# Altium schematic symbol library UK_Library_SCH.SchLib: 87 symbols (part 1 of 2)
Pins are listed as number, name and electrical type; pins without a type are passive.

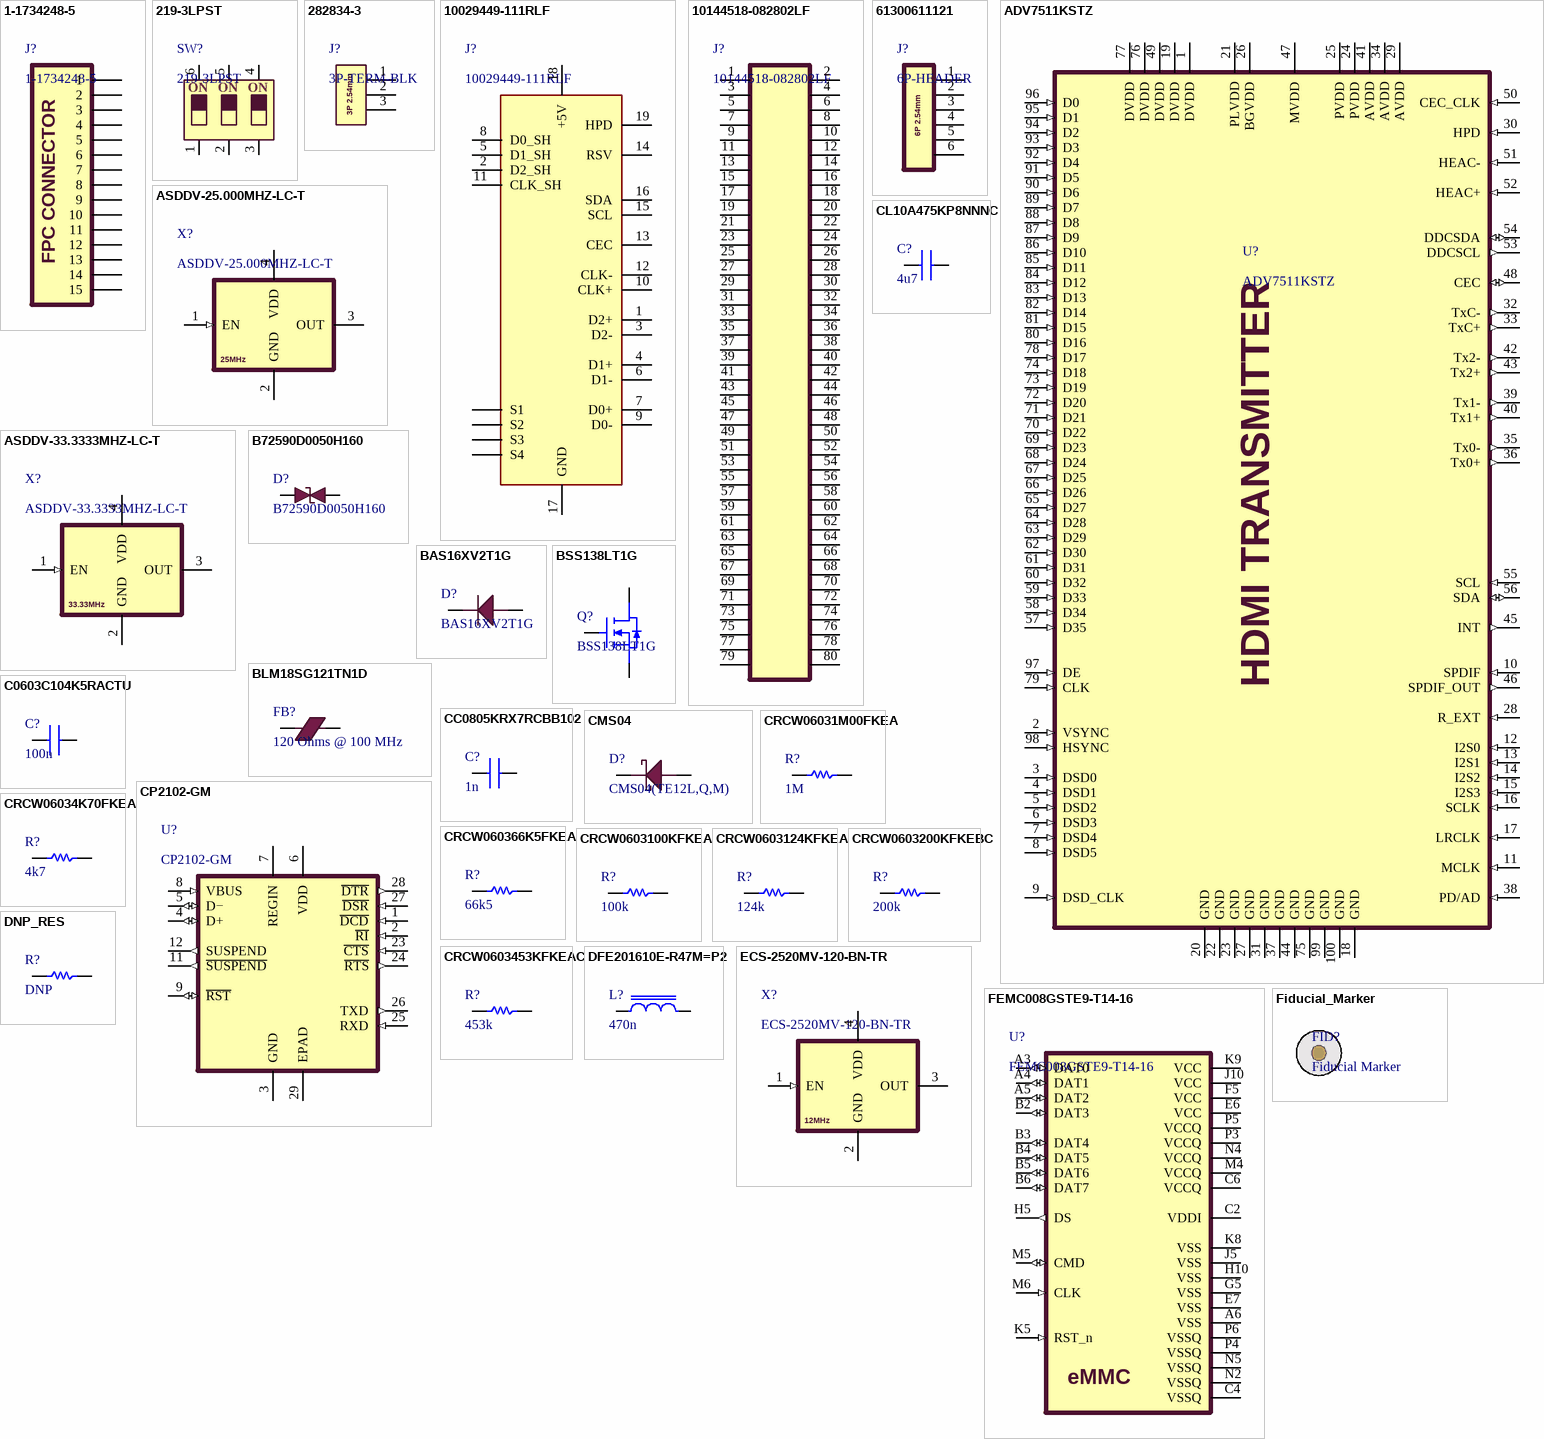
[diagram p0: symbols 1-1734248-5 to Fiducial_Marker]

## 1-1734248-5
designator J?
CONN FPC VERT 15POS 1MM SMD; Manufacturer: TE Connectivity AMP Connectors; ComponentLink2Description: Drawing; ComponentLink2URL: https://www.te.com/commerce/DocumentDelivery/DDEController?Action=srchrtrv&DocNm=1734248&DocType=Customer%20Drawing&DocLang=English&DocFormat=pdf&PartCntxt=1-1734248-5; ComponentLink3Description: Product Specification; ComponentLink3URL: https://www.te.com/commerce/DocumentDelivery/DDEController?Action=srchrtrv&DocNm=108-57080&DocType=Specification%20Or%20Standard&DocLang=English&DocFormat=pdf&PartCntxt=1-1734248-5; MPN: 1-1734248-5
footprint TE_1-1734248-5 (CONN FPC VERT 15POS 1MM SMD); pin to pad 1>1+1_1 2>2+2_1 3>3+3_1 4>4+4_1 5>5+5_1 6>6+6_1 7>7+7_1 8>8+8_1 9>9+9_1 10>10+10_1 11>11+11_1 12>12+12_1 13>13+13_1 14>14+14_1 15>15+15_1
pins: 1, 2, 3, 4, 5, 6, 7, 8, 9, 10, 11, 12, 13, 14, 15
text: FPC CONNECTOR

## 219-3LPST
designator SW?
Dip Switch SPST 3 Position Surface Mount Slide (Standard) Actuator 100mA 20VDC; Manufacturer: CTS Electrocomponents; ComponentLink1Description: Datasheet; ComponentLink1URL: https://www.ctscorp.com/Files/DataSheets/Switches/DIP-Switches/CTS-Switches-DIP-219-Series-Datasheet.pdf; MPN: 219-3LPST
footprint 219-3LPST
pins: 1, 2, 3, 4, 5, 6
text: ON

## 282834-3
designator J?, comment 3P-TERM-BLK
TERM BLK 3P SIDE ENT 2.54MM PCB
footprint CONN-3P-TERM-BLK (TERM BLK 3P SIDE ENT 2.54MM PCB)
pins: 1, 2, 3
text: 3P 2.54mm

## 10029449-111RLF
designator J?
CONN RCPT 1.4 HDMI 19POS SMD R/A; Manufacturer: Amphenol ICC (FCI); ComponentLink1Description: Datasheet; ComponentLink1URL: https://cdn.amphenol-cs.com/media/wysiwyg/files/documentation/datasheet/inputoutput/io_hdmi_receptacles.pdf; ComponentLink2Description: Drawing; ComponentLink2URL: https://cdn.amphenol-cs.com/media/wysiwyg/files/drawing/10029449.pdf; ComponentLink3Description: Product Specification; ComponentLink3URL: https://cdn.amphenol-cs.com/media/wysiwyg/files/documentation/gs-12-309.pdf; MPN: 10029449-111RLF
footprint AMPHENOL_10029449-111RLF
pins: 1 D2+, 2 D2_SH, 3 D2-, 4 D1+, 5 D1_SH, 6 D1-, 7 D0+, 8 D0_SH, 9 D0-, 10 CLK+, 11 CLK_SH, 12 CLK-, 13 CEC, 14 RSV, 15 SCL, 16 SDA, 17 GND, 18 +5V, 19 HPD, S1, S2, S3, S4

## 10144518-082802LF
designator J?
BergStak® Lite 0.80mm, Board-to-Board Connector, 80 Positions, Dual Row, Vertical Header; Manufacturer: Amphenol; MPN: 10144518-082802LF
footprint 10144518-082802LF
pins: 1, 2, 3, 4, 5, 6, 7, 8, 9, 10, 11, 12, 13, 14, 15, 16, 17, 18, 19, 20, 21, 22, 23, 24, 25, 26, 27, 28, 29, 30, 31, 32, 33, 34, 35, 36, 37, 38, 39, 40, 41, 42, 43, 44, 45, 46, 47, 48, 49, 50, 51, 52, 53, 54, 55, 56, 57, 58, 59, 60, 61, 62, 63, 64, 65, 66, 67, 68, 69, 70, 71, 72, 73, 74, 75, 76, 77, 78, 79, 80

## 61300611121
designator J?, comment 6P-HEADER
CONN HEADER VERT 6POS 2.54MM
footprint CONN-6P-HEADER (CONN HEADER VERT 6POS 2.54MM)
pins: 1, 2, 3, 4, 5, 6
text: 6P 2.54mm

## ADV7511KSTZ
designator U?
225 MHz, High Performance HDMI® Transmitter with ARC; Manufacturer: Analog Devices Inc./Maxim Integrated; ComponentLink1Description: Datasheet; ComponentLink1URL: https://www.analog.com/media/en/technical-documentation/data-sheets/ADV7511.pdf; ComponentLink2Description: Hardware User's Guide; ComponentLink2URL: https://www.analog.com/media/en/technical-documentation/user-guides/ADV7511_Hardware_Users_Guide.pdf; ComponentLink3Description: HDMI-Enabled Designs Using the ADV7511; ComponentLink3URL: https://www.analog.com/media/en/technical-documentation/evaluation-documentation/hdmi-enabled_designs_using_adv7511.pdf; ComponentLink4Description: Design Support Files; ComponentLink4URL: https://ez.analog.com/video/w/documents/794/adv7511-design-support-files; MPN: ADV7511KSTZ
footprint LQFP50P1600X1600X160-100N (LQFP, 100-Leads, Body 14,00x14,00mm, Pitch 0,50mm, IPC Medium Density)
pins: 1 DVDD (power), 2 VSYNC (in), 3 DSD0 (in), 4 DSD1 (in), 5 DSD2 (in), 6 DSD3 (in), 7 DSD4 (in), 8 DSD5 (in), 9 DSD_CLK (in), 10 SPDIF (in), 11 MCLK (in), 12 I2S0 (in), 13 I2S1 (in), 14 I2S2 (in), 15 I2S3 (in), 16 SCLK (in), 17 LRCLK (in), 18 GND (power), 19 DVDD (power), 20 GND (power), 21 PLVDD (power), 22 GND (power), 23 GND (power), 24 PVDD (power), 25 PVDD (power), 26 BGVDD (power), 27 GND (power), 28 R_EXT (in), 29 AVDD (power), 30 HPD (in), 31 GND (power), 32 TxC- (out), 33 TxC+ (out), 34 AVDD (power), 35 Tx0- (out), 36 Tx0+ (out), 37 GND (power), 38 PD/AD (in), 39 Tx1- (out), 40 Tx1+ (out), 41 AVDD (power), 42 Tx2- (out), 43 Tx2+ (out), 44 GND (power), 45 INT (out), 46 SPDIF_OUT (out), 47 MVDD (power), 48 CEC (io), 49 DVDD (power), 50 CEC_CLK (in), 51 HEAC- (in), 52 HEAC+ (in), 53 DDCSCL (out), 54 DDCSDA (io), 55 SCL (in), 56 SDA (io), 57 D35 (in), 58 D34 (in), 59 D33 (in), 60 D32 (in), 61 D31 (in), 62 D30 (in), 63 D29 (in), 64 D28 (in), 65 D27 (in), 66 D26 (in), 67 D25 (in), 68 D24 (in), 69 D23 (in), 70 D22 (in), 71 D21 (in), 72 D20 (in), 73 D19 (in), 74 D18 (in), 75 GND (power), 76 DVDD (power), 77 DVDD (power), 78 D17 (in), 79 CLK (in), 80 D16 (in), 81 D15 (in), 82 D14 (in), 83 D13 (in), 84 D12 (in), 85 D11 (in), 86 D10 (in), 87 D9 (in), 88 D8 (in), 89 D7 (in), 90 D6 (in), 91 D5 (in), 92 D4 (in), 93 D3 (in), 94 D2 (in), 95 D1 (in), 96 D0 (in), 97 DE (in), 98 HSYNC (in), 99 GND (power), 100 GND (power)
text: HDMI TRANSMITTER

## ASDDV-25.000MHZ-LC-T
designator X?
25 MHz XO (Standard) HCMOS, LVCMOS Oscillator 1.6V ~ 3.6V Enable/Disable 4-SMD, No Lead; Manufacturer: Abracon LLC; ComponentLink1Description: Datasheet; ComponentLink1URL: https://abracon.com/datasheets/ASDDV.pdf; MPN: ASDDV-25.000MHZ-LC-T
footprint XTAL_2520
pins: 1 EN (in), 2 GND (power), 3 OUT, 4 VDD (power)
text: 25MHz

## ASDDV-33.3333MHZ-LC-T
designator X?
33.3333 MHz XO (Standard) HCMOS, LVCMOS Oscillator 1.6V ~ 3.6V Enable/Disable 4-SMD, No Lead; Manufacturer: Abracon LLC; ComponentLink1Description: Datasheet; ComponentLink1URL: https://abracon.com/datasheets/ASDDV.pdf; MPN: ASDDV-33.3333MHZ-LC-T
footprint XTAL_2520
pins: 1 EN (in), 2 GND (power), 3 OUT, 4 VDD (power)
text: 33.33MHz

## B72590D0050H160
designator D?
Varistor 1 Circuit Surface Mount, MLCV 0402 (1005 Metric); Manufacturer: EPCOS - TDK Electronics; ComponentLink1Description: Datasheet; ComponentLink1URL: https://www.tdk-electronics.tdk.com/inf/75/ds/High_speed_series.pdf?ref_disty=digikey; MPN: B72590D0050H160; Package: 0402
footprint 0402DIOC1005X06N (Chip Diode 2-Leads, Body 1,00x0,50mm, IPC Medium Density)
pins: 1, 2

## BAS16XV2T1G
designator D?
DIODE STANDARD 100V 200MA SOD523; Manufacturer: onsemi; ComponentLink1Description: Datasheet; ComponentLink1URL: https://www.onsemi.com/pdf/datasheet/bas16xv2t1-d.pdf; MPN: BAS16XV2T1G; Package: SOD-523
footprint SODFL160X50-2N (SOD−523 CASE 502, SODFL, 2-Leads, Body 0,80x1,60mm, IPC Medium Density)
pins: A 2, C 1

## BLM18SG121TN1D
designator FB?, comment 120 Ohms @ 100 MHz
FERRITE BEAD 120 OHM 0603 (1608) 3A 25mOhm; Manufacturer: Murata Electronics; MPN: BLM18SG121TN1D; ComponentLink1Description: Datasheet; ComponentLink1URL: https://pim.murata.com/asset/pim4/ferriteBeadInductortypefilter/ENFA0003_PDF_FERRITEBEADINDUCTORTYPEFILTER?lastModifiedDatetime=20250707190934; ComponentLink2Description: Website; ComponentLink2URL: https://pim.murata.com/en-global/pim/details/?partNum=BLM18SG121TN1%23; Current Rating (Max): 3A; DC Resistance (DCR) (Max): 25mOhm; Impedance @ Frequency: 120 Ohms @ 100 MHz; Package: 0603
footprint 0603INDC1608X08N (Chip Inductor, 2-Leads, Body 1,60x0,80mm, IPC Medium Density)
pins: 1, 2

## BSS138LT1G
designator Q?
N-Channel 50 V 200mA (Ta) 225mW (Ta) Surface Mount SOT-23-3 (TO-236); Manufacturer: onsemi; Drain to Source Voltage (Vdss): 50 V; Rds On (Max) @ Id, Vgs: 3.5Ohm @ 200mA, 5V; Vgs (Max): ±20V; ComponentLink1Description: Datasheet; ComponentLink1URL: https://www.onsemi.com/pdf/datasheet/bss138lt1-d.pdf; MPN: BSS138LT1G; Package: SOT-23-3
footprint SOT95P237X89-3N (SOT23, 3-Leads, Body 3,10x2,37mm, Pitch 0,95mm, IPC Medium Density)
pins: 1 G, 2 S, 3 D

## C0603C104K5RACTU
designator C?, comment 100n
CAP CER 0.1UF 50V X7R 0603 (1608) ±10%; Manufacturer: KEMET; MPN: C0603C104K5RACTU; Value: 0.1 µF; ComponentLink1Description: Datasheet; ComponentLink1URL: https://yageogroup.com/content/datasheet/asset/file/KEM_C1002_X7R_SMD; Package: 0603; Tolerance: ±10%; Voltage: 50V
footprint 0603CAPC1608X09L (Chip Capacitor, 2-Leads, Body 1,60x0,80mm, IPC High Density)
footprint 0603CAPC1608X09M (Chip Capacitor, 2-Leads, Body 1,60x0,80mm, IPC Low Density)
footprint 0603CAPC1608X09N (Chip Capacitor, 2-Leads, Body 1,60x0,80mm, IPC Medium Density)
pins: 1, 2

## CC0805KRX7RCBB102
designator C?, comment 1n
CAP CER 1000PF 1KV X7R 0805 (2012) ±10%; Manufacturer: YAGEO; MPN: CC0805KRX7RCBB102; ComponentLink1Description: Datasheet; ComponentLink1URL: https://search.murata.co.jp/Ceramy/image/img/A01X/G101/ENG/GRM21BR71A475KE51-01.pdf; Package: 0805; Tolerance: ±10%; Value: 1000 pF; Voltage: 1kV
footprint 0805CAPC2012X14N (Chip Capacitor, 2-Leads, Body 2,00x1,25mm, IPC Medium Density)
pins: 1, 2

## CL10A475KP8NNNC
designator C?, comment 4u7
CAP CER 4.7UF 10V X5R 0603 (1608) ±10%; Manufacturer: Samsung Electro-Mechanics; MPN: CL10A475KP8NNNC; Value: 4.7 µF; ComponentLink1Description: Datasheet; ComponentLink1URL: https://mm.digikey.com/Volume0/opasdata/d220001/medias/docus/609/CL10A475KP8NNNC_Spec.pdf; Package: 0603; Tolerance: ±10%; Voltage: 10V
footprint 0603CAPC1608X09N (Chip Capacitor, 2-Leads, Body 1,60x0,80mm, IPC Medium Density)
pins: 1, 2

## CMS04
designator D?, comment CMS04(TE12L,Q,M)
Diode 30 V 5A Surface Mount M-FLAT (2.4x3.8); Manufacturer: Toshiba Semiconductor and Storage; ComponentLink1Description: Datasheet; ComponentLink1URL: https://toshiba.semicon-storage.com/info/CMS04_datasheet_en_20180911.pdf?did=3133&prodName=CMS04; MPN: CMS04(TE12L,Q; Package: SOD-123
footprint SOD-128 (SODFL, 2-Leads, Body 2,45x4,70mm, IPC Medium Density)
pins: A 2, C 1

## CP2102-GM
designator U?
USB Bridge, USB to UART USB 2.0 UART Interface 28-QFN (5x5); Manufacturer: Silicon Labs; ComponentLink1Description: Datasheet; ComponentLink1URL: https://www.silabs.com/documents/public/data-sheets/CP2102-9.pdf; MPN: CP2102-GM
footprint QFN50P500X500X100_HS-29N (QFN, 28-Leads, Body 5,00x5,00mm, Pitch 0,50mm, Thermal Pad 3,13x3,13mm, IPC Medium Density)
pins: 1 ~{DCD} (in), 2 ~{RI} (in), 3 GND (power), 4 D+ (io), 5 D− (io), 6 VDD (power), 7 REGIN (power), 8 VBUS (in), 9 ~{RST} (io), 11 ~{SUSPEND} (out), 12 SUSPEND (out), 23 ~{CTS} (in), 24 ~{RTS} (out), 25 RXD (in), 26 TXD (out), 27 ~{DSR} (in), 28 ~{DTR} (out), 29 EPAD (power)

## CRCW06031M00FKEA
designator R?, comment 1M
RES SMD 1M OHM 1% 1/8W 0603 (1608); Manufacturer: Vishay Dale; MPN: CRCW06031M00FKEA; Value: 1 MOhms; Voltage: 75V; ComponentLink1Description: Datasheet; ComponentLink1URL: https://www.vishay.com/docs/20035/dcrcwe3.pdf; Tolerance: ±1%; Package: 0603
footprint 0603RESC1608X05L (Chip Resistor, 2-Leads, Body 1,58x0,85mm, IPC High Density)
footprint 0603RESC1608X05M (Chip Resistor, 2-Leads, Body 1,58x0,85mm, IPC Low Density)
footprint 0603RESC1608X05N (Chip Resistor, 2-Leads, Body 1,58x0,85mm, IPC Medium Density)
pins: 1, 2

## CRCW06034K70FKEA
designator R?, comment 4k7
RES SMD 4.7K OHM 1% 1/8W 0603(1608); Manufacturer: Vishay Dale; MPN: CRCW06034K70FKEA; Value: 4.7 kOhms; Voltage: 75V; ComponentLink1Description: Datasheet; ComponentLink1URL: https://www.vishay.com/docs/20035/dcrcwe3.pdf; Tolerance: ±1%; Package: 0603
footprint 0603RESC1608X05L (Chip Resistor, 2-Leads, Body 1,58x0,85mm, IPC High Density)
footprint 0603RESC1608X05M (Chip Resistor, 2-Leads, Body 1,58x0,85mm, IPC Low Density)
footprint 0603RESC1608X05N (Chip Resistor, 2-Leads, Body 1,58x0,85mm, IPC Medium Density)
pins: 1, 2

## CRCW060366K5FKEA
designator R?, comment 66k5
RES SMD 66.5K OHM 1% 1/8W 0603 (1608); Manufacturer: Vishay Dale; MPN: CRCW060366K5FKEA; Value: 66.5 kOhms; Voltage: 75V; ComponentLink1Description: Datasheet; ComponentLink1URL: https://www.vishay.com/docs/20035/dcrcwe3.pdf; Tolerance: ±1%; Package: 0603
footprint 0603RESC1608X05L (Chip Resistor, 2-Leads, Body 1,58x0,85mm, IPC High Density)
footprint 0603RESC1608X05M (Chip Resistor, 2-Leads, Body 1,58x0,85mm, IPC Low Density)
footprint 0603RESC1608X05N (Chip Resistor, 2-Leads, Body 1,58x0,85mm, IPC Medium Density)
pins: 1, 2

## CRCW0603100KFKEA
designator R?, comment 100k
RES SMD 100K OHM 1% 1/8W 0603 (1608); Manufacturer: Vishay Dale; MPN: CRCW0603100KFKEA; Value: 100 kOhms; Voltage: 75V; ComponentLink1Description: Datasheet; ComponentLink1URL: https://www.vishay.com/docs/20035/dcrcwe3.pdf; Tolerance: ±1%; Package: 0603
footprint 0603RESC1608X05L (Chip Resistor, 2-Leads, Body 1,58x0,85mm, IPC High Density)
footprint 0603RESC1608X05M (Chip Resistor, 2-Leads, Body 1,58x0,85mm, IPC Low Density)
footprint 0603RESC1608X05N (Chip Resistor, 2-Leads, Body 1,58x0,85mm, IPC Medium Density)
pins: 1, 2

## CRCW0603124KFKEA
designator R?, comment 124k
RES SMD 124K OHM 1% 1/8W 0603 (1608); Manufacturer: Vishay Dale; MPN: CRCW0603124KFKEA; Value: 124 kOhms; Voltage: 75V; ComponentLink1Description: Datasheet; ComponentLink1URL: https://www.vishay.com/docs/20035/dcrcwe3.pdf; Tolerance: ±1%; Package: 0603
footprint 0603RESC1608X05L (Chip Resistor, 2-Leads, Body 1,58x0,85mm, IPC High Density)
footprint 0603RESC1608X05M (Chip Resistor, 2-Leads, Body 1,58x0,85mm, IPC Low Density)
footprint 0603RESC1608X05N (Chip Resistor, 2-Leads, Body 1,58x0,85mm, IPC Medium Density)
pins: 1, 2

## CRCW0603200KFKEBC
designator R?, comment 200k
RES 200K OHM 1% 1/10W 0603 (1608); Manufacturer: Vishay Dale; MPN: CRCW0603200KFKEBC; Value: 200 kOhms; Voltage: 75V; ComponentLink1Description: Datasheet; ComponentLink1URL: https://www.vishay.com/docs/28773/crcwce3.pdf; Tolerance: ±1%; Package: 0603
footprint 0603RESC1608X05L (Chip Resistor, 2-Leads, Body 1,58x0,85mm, IPC High Density)
footprint 0603RESC1608X05M (Chip Resistor, 2-Leads, Body 1,58x0,85mm, IPC Low Density)
footprint 0603RESC1608X05N (Chip Resistor, 2-Leads, Body 1,58x0,85mm, IPC Medium Density)
pins: 1, 2

## CRCW0603453KFKEAC
designator R?, comment 453k
RES 453K OHM 1% 1/10W 0603(1608); Manufacturer: Vishay Dale; MPN: CRCW0603453KFKEAC; Value: 453 kOhms; Voltage: 75V; ComponentLink1Description: Datasheet; ComponentLink1URL: https://www.vishay.com/docs/28773/crcwce3.pdf; Tolerance: ±1%; Package: 0603
footprint 0603RESC1608X05L (Chip Resistor, 2-Leads, Body 1,58x0,85mm, IPC High Density)
footprint 0603RESC1608X05M (Chip Resistor, 2-Leads, Body 1,58x0,85mm, IPC Low Density)
footprint 0603RESC1608X05N (Chip Resistor, 2-Leads, Body 1,58x0,85mm, IPC Medium Density)
pins: 1, 2

## DFE201610E-R47M=P2
designator L?, comment 470n
FIXED IND 470NH 3.6A 32 MOHM SMD 0806 (2016 Metric); Manufacturer: Murata Electronics; MPN: DFE201610E-R47M=P2; DC Resistance (DCR) (Max): 32mOhm; Current - Saturation (Isat): 4.8A; ComponentLink1Description: Datasheet; ComponentLink1URL: https://pim.murata.com/asset/pim4/inductor/J(E)TE243A-0001_PDF_INDUCTOR?lastModifiedDatetime=20250708072022; ComponentLink2Description: Website; ComponentLink2URL: https://pim.murata.com/en-global/pim/details/?partNum=DFE201610E-R47M%23; Current Rating (Max): 3.6 A; Inductance: 470 nH; Package: 0806
footprint 0806INDC2016X10N (Chip Inductor, 2-Leads, Body 2,00x1,60mm, IPC Medium Density)
pins: 1, 2

## DNP_RES
designator R?, comment DNP
DO NOT POPULATE RESISTOR; Manufacturer: ***; Value: ***; ComponentLink1Description: Datasheet; ComponentLink1URL: https://yageogroup.com/content/datasheet/asset/file/PYU-RT_1-TO-0-01_ROHS_L; MPN: ***; Voltage: ***; Tolerance: ***; Package: 0402
footprint 0402RESC1005X04N (Chip Resistor, 2-Leads, Body 1,00x0,50mm, IPC Medium Density)
pins: 1, 2

## ECS-2520MV-120-BN-TR
designator X?
XTAL OSC XO 12.0000MHZ CMOS SMD; Manufacturer: ECS Inc.; ComponentLink1Description: Datasheet; ComponentLink1URL: https://ecsxtal.com/store/pdf/ECS-2520MV.pdf; MPN: ECS-2520MV-120-BN-TR
footprint XTAL_2520
pins: 1 EN (in), 2 GND (power), 3 OUT, 4 VDD (power)
text: 12MHz

## FEMC008GSTE9-T14-16
designator U?
FLASH - NAND (MLC) Memory IC 64Gbit eMMC_5.1 200 MHz 153-FBGA (11.5x13); Manufacturer: Flexxon Pte Ltd; ComponentLink1Description: Datasheet; ComponentLink1URL: https://mm.digikey.com/Volume0/opasdata/d220001/medias/docus/6348/FLEXXON%20eMMC%205.1%20MLC%20%28XTRA%20III%20153ball%29%20SPEC%20V1.9.pdf; MPN: FEMC008GSTE9-T14-16; ComponentLink2Description: eMMC Design Guide; ComponentLink2URL: https://www.flexxon.com/wp-content/uploads/Technical%20Info/FLEXXON%20eMMC%20Design%20Guide%20(XTRA%20III%20153Balls)%20V1.2.pdf?x72842
footprint BGA153C50P14X14_1150X1300X100 (FBGA, 153-Leads, Body 11,50x13,00mmx1,00mm, Pitch 0,50mm)
pins: A3 DAT0 (io), A4 DAT1 (io), A5 DAT2 (io), A6 VSS (power), B2 DAT3 (io), B3 DAT4 (io), B4 DAT5 (io), B5 DAT6 (io), B6 DAT7 (io), C2 VDDI (power), C4 VSSQ (power), C6 VCCQ (power), E6 VCC (power), E7 VSS (power), F5 VCC (power), G5 VSS (power), H5 DS (out), H10 VSS (power), J5 VSS (power), J10 VCC (power), K5 RST_n (in), K8 VSS (power), K9 VCC (power), M4 VCCQ (power), M5 CMD (io), M6 CLK (in), N2 VSSQ (power), N4 VCCQ (power), N5 VSSQ (power), P3 VCCQ (power), P4 VSSQ (power), P5 VCCQ (power), P6 VSSQ (power)
text: eMMC

## Fiducial_Marker
designator FID?, comment Fiducial Marker
Fiducial Marker 1mm No Bom
footprint Fiducial

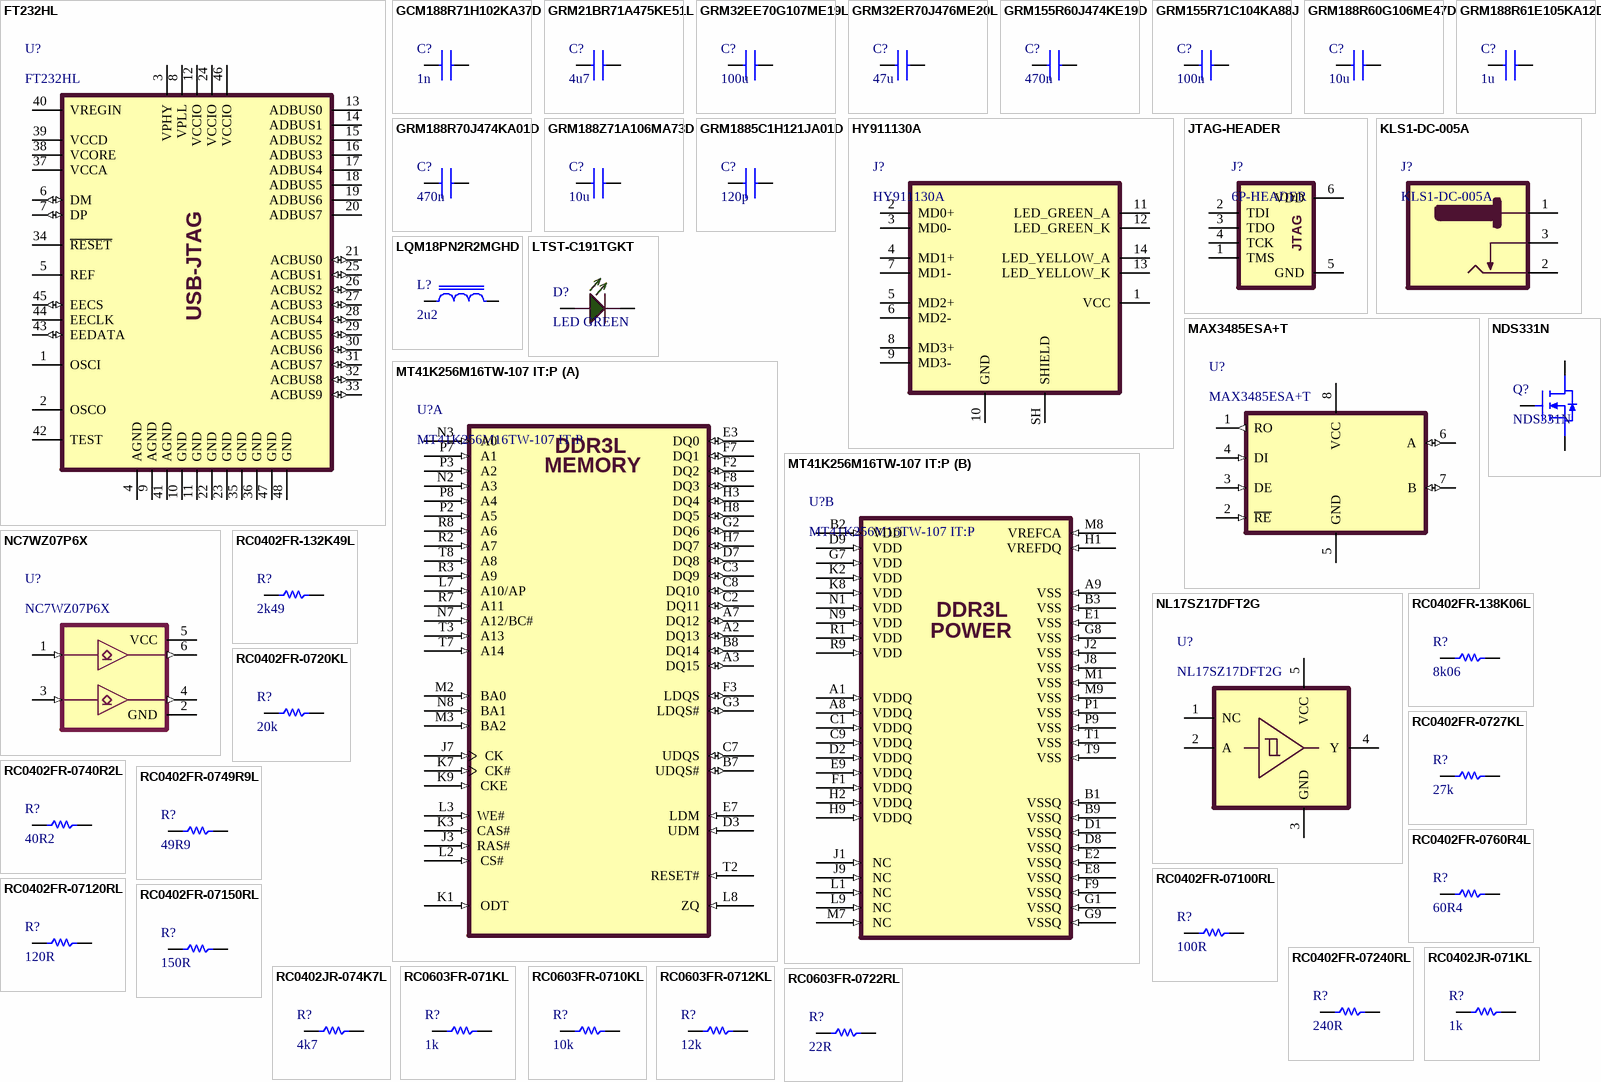
[diagram p1: symbols FT232HL to RC0603FR-0722RL]

## FT232HL
designator U?
USB Bridge, USB to UART (JTAG),FIFO USB 2.0 UART, FIFO Interface 48-LQFP (7x7); Manufacturer: FTDI, Future Technology Devices International Ltd; MPN: FT232HL-REEL; ComponentLink1Description: Datasheet; ComponentLink1URL: https://ftdichip.com/wp-content/uploads/2024/09/DS_FT232H.pdf#page=51&zoom=100,72,126
footprint LQFP50P900X900X160-48N (LQFP, 48-Leads, Body 7,00x7,00mm, Pitch 0,50mm, IPC Medium Density)
pins: 1 OSCI, 2 OSCO, 3 VPHY (power), 4 AGND (power), 5 REF, 6 DM (io), 7 DP (io), 8 VPLL (power), 9 AGND (power), 10 GND (power), 11 GND (power), 12 VCCIO (power), 13 ADBUS0, 14 ADBUS1, 15 ADBUS2, 16 ADBUS3, 17 ADBUS4, 18 ADBUS5, 19 ADBUS6, 20 ADBUS7, 21 ACBUS0 (io), 22 GND (power), 23 GND (power), 24 VCCIO (power), 25 ACBUS1 (io), 26 ACBUS2 (io), 27 ACBUS3 (io), 28 ACBUS4 (io), 29 ACBUS5 (io), 30 ACBUS6 (io), 31 ACBUS7 (io), 32 ACBUS8 (io), 33 ACBUS9 (io), 34 ~{RESET}, 35 GND (power), 36 GND (power), 37 VCCA (power), 38 VCORE (power), 39 VCCD (power), 40 VREGIN (power), 41 AGND (power), 42 TEST, 43 EEDATA (io), 44 EECLK, 45 EECS (io), 46 VCCIO (power), 47 GND (power), 48 GND (power)
text: USB-JTAG

## GCM188R71H102KA37D
designator C?, comment 1n
CAP CER 1000PF 50V X7R 0603 (1608) ±10%; Manufacturer: Murata Electronics; MPN: GCM188R71H102KA37D; ComponentLink1Description: Datasheet; ComponentLink1URL: https://search.murata.co.jp/Ceramy/image/img/A01X/G101/ENG/GCM188R71H102KA37-01.pdf; Package: 0603; Tolerance: ±10%; Value: 1000 pF; Voltage: 50V
footprint 0603CAPC1608X09L (Chip Capacitor, 2-Leads, Body 1,60x0,80mm, IPC High Density)
footprint 0603CAPC1608X09M (Chip Capacitor, 2-Leads, Body 1,60x0,80mm, IPC Low Density)
footprint 0603CAPC1608X09N (Chip Capacitor, 2-Leads, Body 1,60x0,80mm, IPC Medium Density)
pins: 1, 2

## GRM21BR71A475KE51L
designator C?, comment 4u7
CAP CER 4.7UF 10V X7R 0805 (2012) ±10%; Manufacturer: Murata Electronics; MPN: GRM21BR71A475KE51L; Value: 4.7 µF; ComponentLink1Description: Datasheet; ComponentLink1URL: https://search.murata.co.jp/Ceramy/image/img/A01X/G101/ENG/GRM21BR71A475KE51-01.pdf; Package: 0805; Tolerance: ±10%; Voltage: 10V
footprint 0805CAPC2012X14N (Chip Capacitor, 2-Leads, Body 2,00x1,25mm, IPC Medium Density)
pins: 1, 2

## GRM32EE70G107ME19L
designator C?, comment 100u
CAP CER 100UF 4V X7U 1210 (3225) ±20%; Manufacturer: Murata Electronics; MPN: GRM32EE70G107ME19L; Value: 100 µF; ComponentLink1Description: Datasheet; ComponentLink1URL: https://search.murata.co.jp/Ceramy/image/img/A01X/G101/ENG/GRM32EE70G107ME19-01.pdf; Package: 1210; Tolerance: ±20%; Voltage: 4V
footprint 1210CAPC3225X27N (Chip Capacitor, 2-Leads, Body 3,20x2,50mm, IPC Medium Density)
pins: 1, 2

## GRM32ER70J476ME20L
designator C?, comment 47u
CAP CER 47UF 6.3V X7R 1210 1210 (3225) ±20%; Manufacturer: Murata Electronics; MPN: GRM32ER70J476ME20L; Value: 47 µF; ComponentLink1Description: Datasheet; ComponentLink1URL: https://search.murata.co.jp/Ceramy/image/img/A01X/G101/ENG/GRM32ER70J476ME20-01.pdf; Package: 1210; Tolerance: ±20%; Voltage: 6.3V
footprint 1210CAPC3225X27N (Chip Capacitor, 2-Leads, Body 3,20x2,50mm, IPC Medium Density)
pins: 1, 2

## GRM155R60J474KE19D
designator C?, comment 470n
CAP CER 0.47UF 6.3V X5R 0402(1005) ±10%; Manufacturer: Murata Electronics; MPN: GRM155R60J474KE19D; Value: 0.47 µF; ComponentLink1Description: Datasheet; ComponentLink1URL: https://search.murata.co.jp/Ceramy/image/img/A01X/G101/ENG/GRM21BR71A475KE51-01.pdf; Package: 0402; Tolerance: ±10%; Voltage: 6.3V
footprint 0402CAPC1005X06N (Chip Capacitor, 2-Leads, Body 1,00x0,50mm, IPC Medium Density)
pins: 1, 2

## GRM155R71C104KA88J
designator C?, comment 100n
CAP CER 0.1UF 16V X7R 0402 (1005) ±10%; Manufacturer: Murata Electronics; MPN: GRM155R71C104KA88J; Value: 0.1 µF; ComponentLink1Description: Datasheet; ComponentLink1URL: https://search.murata.co.jp/Ceramy/image/img/A01X/G101/ENG/GRM155R71C104KA88-01.pdf; Package: 0402; Tolerance: ±10%; Voltage: 16V
footprint 0402CAPC1005X06N (Chip Capacitor, 2-Leads, Body 1,00x0,50mm, IPC Medium Density)
pins: 1, 2

## GRM188R60G106ME47D
designator C?, comment 10u
CAP CER 10UF 4V X5R 0603 (1608) ±20%; Manufacturer: Murata Electronics; MPN: GRM188R60G106ME47D; Value: 10 µF; ComponentLink1Description: Datasheet; ComponentLink1URL: https://search.murata.co.jp/Ceramy/image/img/A01X/G101/ENG/GRM188R60G106ME47-01.pdf; Package: 0603; Tolerance: ±20%; Voltage: 4V
footprint 0603CAPC1608X09L (Chip Capacitor, 2-Leads, Body 1,60x0,80mm, IPC High Density)
footprint 0603CAPC1608X09M (Chip Capacitor, 2-Leads, Body 1,60x0,80mm, IPC Low Density)
footprint 0603CAPC1608X09N (Chip Capacitor, 2-Leads, Body 1,60x0,80mm, IPC Medium Density)
pins: 1, 2

## GRM188R61E105KA12D
designator C?, comment 1u
CAP CER 1UF 25V X5R 0603 (1608) ±10%; Manufacturer: Murata Power Solutions Inc.; MPN: GRM188R61E105KA12D; Value: 1 µF; ComponentLink1Description: Datasheet; ComponentLink1URL: https://search.murata.co.jp/Ceramy/image/img/A01X/G101/ENG/GRM188R61E105KA12-01.pdf; Package: 0603; Tolerance: ±10%; Voltage: 25V
footprint 0603CAPC1608X09N (Chip Capacitor, 2-Leads, Body 1,60x0,80mm, IPC Medium Density)
footprint 0603CAPC1608X09M (Chip Capacitor, 2-Leads, Body 1,60x0,80mm, IPC Low Density)
footprint 0603CAPC1608X09L (Chip Capacitor, 2-Leads, Body 1,60x0,80mm, IPC High Density)
pins: 1, 2

## GRM188R70J474KA01D
designator C?, comment 470n
CAP CER 0.47UF 6.3V X7R 0603 (1608) ±10%; Manufacturer: Murata Electronics; MPN: GRM188R70J474KA01D; Value: 0.47 µF; ComponentLink1Description: Datasheet; ComponentLink1URL: https://search.murata.co.jp/Ceramy/image/img/A01X/G101/ENG/GRM188R70J474KA01-01.pdf; Package: 0603; Tolerance: ±10%; Voltage: 6.3V
footprint 0603CAPC1608X09N (Chip Capacitor, 2-Leads, Body 1,60x0,80mm, IPC Medium Density)
footprint 0603CAPC1608X09M (Chip Capacitor, 2-Leads, Body 1,60x0,80mm, IPC Low Density)
footprint 0603CAPC1608X09L (Chip Capacitor, 2-Leads, Body 1,60x0,80mm, IPC High Density)
pins: 1, 2

## GRM188Z71A106MA73D
designator C?, comment 10u
CAP CER 10UF 10V X7R 0603 (1608) ±20%; Manufacturer: Murata Electronics; MPN: GRM188Z71A106MA73D; Value: 10 µF; ComponentLink1Description: Datasheet; ComponentLink1URL: https://search.murata.co.jp/Ceramy/image/img/A01X/G101/ENG/GRM188Z71A106MA73-01A.pdf; Package: 0603; Tolerance: ±20%; Voltage: 10V
footprint 0603CAPC1608X09L (Chip Capacitor, 2-Leads, Body 1,60x0,80mm, IPC High Density)
footprint 0603CAPC1608X09M (Chip Capacitor, 2-Leads, Body 1,60x0,80mm, IPC Low Density)
footprint 0603CAPC1608X09N (Chip Capacitor, 2-Leads, Body 1,60x0,80mm, IPC Medium Density)
pins: 1, 2

## GRM1885C1H121JA01D
designator C?, comment 120p
CAP CER 120PF 50V C0G/NP0 0603 (1608) ±5%; Manufacturer: Murata Electronics; MPN: GRM1885C1H121JA01D; ComponentLink1Description: Datasheet; ComponentLink1URL: https://search.murata.co.jp/Ceramy/image/img/A01X/G101/ENG/GRM1885C1H121JA01-01.pdf; Package: 0603; Tolerance: ±5%; Value: 120 pF; Voltage: 50V
footprint 0603CAPC1608X09L (Chip Capacitor, 2-Leads, Body 1,60x0,80mm, IPC High Density)
footprint 0603CAPC1608X09M (Chip Capacitor, 2-Leads, Body 1,60x0,80mm, IPC Low Density)
footprint 0603CAPC1608X09N (Chip Capacitor, 2-Leads, Body 1,60x0,80mm, IPC Medium Density)
pins: 1, 2

## HY911130A
designator J?
Jack Modular Connector RJ45 Through Hole Shielded; Manufacturer: Hanrun; MPN: HY911130A; ComponentLink1Description: Datasheet; ComponentLink1URL: https://www.lcsc.com/datasheet/C55679.pdf
footprint HY911130A
pins: 1 VCC, 2 MD0+, 3 MD0-, 4 MD1+, 5 MD2+, 6 MD2-, 7 MD1-, 8 MD3+, 9 MD3-, 10 GND, 11 LED_GREEN_A, 12 LED_GREEN_K, 13 LED_YELLOW_K, 14 LED_YELLOW_A, SH SHIELD

## JTAG-HEADER
designator J?, comment 6P-HEADER
JTAG CONN HEADER VERT 6POS 2.54MM
footprint CONN-6P-HEADER (CONN HEADER VERT 6POS 2.54MM)
pins: 1 TMS, 2 TDI, 3 TDO, 4 TCK, 5 GND, 6 VDD
text: JTAG

## KLS1-DC-005A
designator J?
CONNECTOR DC JACK POWER PCB TYPE 2.50MM KLS; Manufacturer: KLS ELECTRONIC; MPN: L-KLS1-DC-005A-2.0; ComponentLink1Description: Datasheet; ComponentLink1URL: https://www.ozdisan.com/api/pdf/product/assets/KLS1-DC-005A.pdf
footprint CONN-KLS1-DC-005A
pins: 1 VCC, 2 GND, 3 SH

## LQM18PN2R2MGHD
designator L?, comment 2u2
FIXED IND 2.2UH 1.05A 250 MOHM 0603 (1608 Metric); Manufacturer: Murata Electronics; MPN: LQM18PN2R2MGHD; Inductance: 2.2 µH; Current - Saturation (Isat): 250mA; ComponentLink1Description: Datasheet; ComponentLink1URL: https://search.murata.co.jp/Ceramy/image/img/P02/JELF243B-0047.pdf; ComponentLink2Description: Website; ComponentLink2URL: https://pim.murata.com/en-eu/pim/details/?partNum=LQM18PN2R2MGHD; Current Rating (Max): 1.05 A; DC Resistance (DCR) (Max): 250mOhm; Package: 0603
footprint 0603INDC1608X08N (Chip Inductor, 2-Leads, Body 1,60x0,80mm, IPC Medium Density)
pins: 1, 2

## LTST-C191TGKT
designator D?, comment LED GREEN
LED GREEN CLEAR CHIP SMD; Manufacturer: Lite-On Inc.; MPN: LTST-C191TGKT; ComponentLink1Description: Datasheet; ComponentLink1URL: https://optoelectronics.liteon.com/upload/download/DS22-2000-300/LTST-C191TGKT.PDF; Package: 0603
footprint 0603_LED_1608N (LED, 2-Leads, Body 1,58x0,85mm, IPC Medium Density)
pins: 1 A, 2 C

## MAX3485ESA+T
designator U?
1/1 Transceiver Half RS422, RS485 8-SOIC; Manufacturer: Analog Devices Inc./Maxim Integrated; ComponentLink1Description: Datasheet; ComponentLink1URL: https://www.analog.com/media/en/technical-documentation/data-sheets/max3483-max3491.pdf; MPN: MAX3485ESA+T
footprint SOIC127P600X175-8N (SOIC, 8-Leads, Body 4,90x3,90mm, Pitch 1,27mm, IPC Medium Density)
pins: 1 RO (out), 2 ~{RE} (in), 3 DE (in), 4 DI (in), 5 GND (power), 6 A (io), 7 B (io), 8 VCC (power)

## MT41K256M16TW-107 IT:P
designator U?
SDRAM - DDR3L Memory IC 4Gbit Parallel 933 MHz 20 ns 96-FBGA (8x14); Manufacturer: Micron Technology Inc.; ComponentLink1Description: Datasheet; ComponentLink1URL: https://datasheet.octopart.com/MT41K256M16TW-107%3AP-Micron-datasheet-149527670.pdf; MPN: MT41K256M16TW-107 IT:P
footprint BGA96C80P9X16_900X1400X110 (BGA, 96-Leads, Body 9,00x14,00mmx1,10mm, Pitch 0,80mm)
part A pins: A2  DQ13 (io), A3  DQ15 (io), A7  DQ12 (io), B7  UDQS# (io), B8  DQ14 (io), C2  DQ11 (io), C3  DQ9 (io), C7  UDQS (io), C8  DQ10 (io), D3  UDM (in), D7  DQ8 (io), E3  DQ0 (io), E7  LDM (in), F2  DQ2 (io), F3  LDQS (io), F7  DQ1 (io), F8  DQ3 (io), G2  DQ6 (io), G3  LDQS# (io), H3  DQ4 (io), H7  DQ7 (io), H8  DQ5 (io), J3 RAS# (in), J7  CK (in), K1  ODT (in), K3 CAS# (in), K7  CK# (in), K9  CKE (in), L2  CS# (in), L3 WE# (in), L7  A10/AP (in), L8 ZQ (in), M2  BA0 (in), M3  BA2 (in), N2  A3 (in), N3  A0 (in), N7  A12/BC# (in), N8  BA1 (in), P2  A5 (in), P3  A2 (in), P7  A1 (in), P8  A4 (in), R2  A7 (in), R3  A9 (in), R7  A11 (in), R8  A6 (in), T2  RESET# (in), T3  A13 (in), T7  A14 (in), T8  A8 (in)
part B pins: A1  VDDQ (in), A8  VDDQ (in), A9  VSS (in), B1  VSSQ (in), B2  VDD (in), B3  VSS (in), B9  VSSQ (in), C1  VDDQ (in), C9  VDDQ (in), D1  VSSQ (in), D2  VDDQ (in), D8  VSSQ (in), D9  VDD (in), E1  VSS (in), E2  VSSQ (in), E8  VSSQ (in), E9  VDDQ (in), F1  VDDQ (in), F9  VSSQ (in), G1  VSSQ (in), G7  VDD (in), G8  VSS (in), G9  VSSQ (in), H1  VREFDQ (in), H2  VDDQ (in), H9  VDDQ (in), J1  NC (in), J2  VSS (in), J8  VSS (in), J9  NC (in), K2  VDD (in), K8  VDD (in), L1  NC (in), L9  NC (in), M1  VSS (in), M7  NC (in), M8  VREFCA (in), M9  VSS (in), N1  VDD (in), N9  VDD (in), P1  VSS (in), P9  VSS (in), R1  VDD (in), R9  VDD (in), T1  VSS (in), T9  VSS (in)
part A text: DDR3L; MEMORY
part B text: DDR3L; POWER

## NC7WZ07P6X
designator U?
IC BUFFER NON-INVERT 5.5V SC-88; Manufacturer: onsemi; ComponentLink1Description: Datasheet; ComponentLink1URL: https://www.onsemi.com/pdf/datasheet/nc7wz07-d.pdf; MPN: NC7WZ07P6X
footprint NC7WZ07
pins: 1 A1 (in), 2 GND (power), 3 A2 (in), 4 Y2 (out), 5 VCC (power), 6 Y1 (out)

## NDS331N
designator Q?
N-Channel 20 V 1.3A (Ta) 500mW (Ta) Surface Mount SOT-23-3; Manufacturer: onsemi; Drain to Source Voltage (Vdss): 20 V; Rds On (Max) @ Id, Vgs: 160mOhm @ 1.5A, 4.5V; Vgs (Max): ±8V; ComponentLink1Description: Datasheet; ComponentLink1URL: https://www.onsemi.com/pdf/datasheet/nds331n-d.pdf; MPN: NDS331N; Package: SOT-23-3
footprint SOT95P251X112-3N (SOT23, 3-Leads, Body 2,92x2,51mm, Pitch 0,95mm, IPC Medium Density)
pins: 1 G, 2 S, 3 D

## NL17SZ17DFT2G
designator U?
IC BUFFER NON-INVERT 5.5V SC-88A; Manufacturer: onsemi; ComponentLink1Description: Datasheet; ComponentLink1URL: https://www.onsemi.com/pdf/datasheet/nl17sz17-d.pdf; MPN: NL17SZ17DFT2G
footprint SOT65P210X110-5N (SOT23, 5-Leads, Body 2,00x2,10mm, Pitch 0,65mm, IPC Medium Density)
pins: 1 NC, 2 A, 3 GND (power), 4 Y, 5 VCC (power)

## RC0402FR-132K49L
designator R?, comment 2k49
RES 2.49K OHM 1% 1/16W 0402 (1005); Manufacturer: YAGEO; MPN: RC0402FR-132K49L; Value: 2.49 kOhms; Voltage: 50V; ComponentLink1Description: Datasheet; ComponentLink1URL: https://yageogroup.com/content/datasheet/asset/file/PYU-RC_GROUP_51_ROHS_L; Tolerance: ±1%; Package: 0402
footprint 0402RESC1005X04N (Chip Resistor, 2-Leads, Body 1,00x0,50mm, IPC Medium Density)
pins: 1, 2

## RC0402FR-138K06L
designator R?, comment 8k06
RES 8.06K OHM 1% 1/16W 0402 (1005); Manufacturer: YAGEO; MPN: RC0402FR-138K06L; Value: 8.06 kOhms; Voltage: 50V; ComponentLink1Description: Datasheet; ComponentLink1URL: https://yageogroup.com/content/datasheet/asset/file/PYU-RT_1-TO-0-01_ROHS_L; Tolerance: ±1%; Package: 0402
footprint 0402RESC1005X04N (Chip Resistor, 2-Leads, Body 1,00x0,50mm, IPC Medium Density)
pins: 1, 2

## RC0402FR-0720KL
designator R?, comment 20k
RES 20K OHM 1% 1/16W 0402 (1005); Manufacturer: YAGEO; MPN: RC0402FR-0720KL; Value: 20 kOhms; Voltage: 50V; ComponentLink1Description: Datasheet; ComponentLink1URL: https://yageogroup.com/content/datasheet/asset/file/PYU-RT_1-TO-0-01_ROHS_L; Tolerance: ±1%; Package: 0402
footprint 0402RESC1005X04N (Chip Resistor, 2-Leads, Body 1,00x0,50mm, IPC Medium Density)
pins: 1, 2

## RC0402FR-0727KL
designator R?, comment 27k
RES 27K OHM 1% 1/16W 0402 (1005); Manufacturer: YAGEO; MPN: RC0402FR-0727KL; Value: 27 kOhms; Voltage: 50V; ComponentLink1Description: Datasheet; ComponentLink1URL: https://yageogroup.com/content/datasheet/asset/file/PYU-RC_GROUP_51_ROHS_L; Tolerance: ±1%; Package: 0402
footprint 0402RESC1005X04N (Chip Resistor, 2-Leads, Body 1,00x0,50mm, IPC Medium Density)
pins: 1, 2

## RC0402FR-0740R2L
designator R?, comment 40R2
RES 40.2 OHM 1% 1/16W 0402 (1005); Manufacturer: YAGEO; MPN: RC0402FR-0740R2L; Value: 40.2 Ohms; Voltage: 50V; ComponentLink1Description: Datasheet; ComponentLink1URL: https://yageogroup.com/content/datasheet/asset/file/PYU-RC_GROUP_51_ROHS_L; Tolerance: ±1%; Package: 0402
footprint 0402RESC1005X04N (Chip Resistor, 2-Leads, Body 1,00x0,50mm, IPC Medium Density)
pins: 1, 2

## RC0402FR-0749R9L
designator R?, comment 49R9
RES 49.9 OHM 1% 1/16W 0402 (1005); Manufacturer: YAGEO; MPN: RC0402FR-0749R9L; Value: 49.9 Ohms; Voltage: 50V; ComponentLink1Description: Datasheet; ComponentLink1URL: https://yageogroup.com/content/datasheet/asset/file/PYU-RC_GROUP_51_ROHS_L; Tolerance: ±1%; Package: 0402
footprint 0402RESC1005X04N (Chip Resistor, 2-Leads, Body 1,00x0,50mm, IPC Medium Density)
pins: 1, 2

## RC0402FR-0760R4L
designator R?, comment 60R4
RES 60.4 OHM 1% 1/16W 0402 (1005); Manufacturer: YAGEO; MPN: RC0402FR-0760R4L; Value: 60.4 Ohms; Voltage: 50V; ComponentLink1Description: Datasheet; ComponentLink1URL: https://yageogroup.com/content/datasheet/asset/file/PYU-RC_GROUP_51_ROHS_L; Tolerance: ±1%; Package: 0402
footprint 0402RESC1005X04N (Chip Resistor, 2-Leads, Body 1,00x0,50mm, IPC Medium Density)
pins: 1, 2

## RC0402FR-07100RL
designator R?, comment 100R
RES 100 OHM 1% 1/16W 0402 (1005); Manufacturer: YAGEO; MPN: RC0402FR-07100RL; Value: 100 Ohms; Voltage: 50V; ComponentLink1Description: Datasheet; ComponentLink1URL: https://yageogroup.com/content/datasheet/asset/file/PYU-RC_GROUP_51_ROHS_L; Tolerance: ±1%; Package: 0402
footprint 0402RESC1005X04N (Chip Resistor, 2-Leads, Body 1,00x0,50mm, IPC Medium Density)
pins: 1, 2

## RC0402FR-07120RL
designator R?, comment 120R
RES 120 OHM 1% 1/16W 0402 (1005); Manufacturer: YAGEO; MPN: RC0402FR-07120RL; Value: 120 Ohms; Voltage: 50V; ComponentLink1Description: Datasheet; ComponentLink1URL: https://yageogroup.com/content/datasheet/asset/file/PYU-RC_GROUP_51_ROHS_L; Tolerance: ±1%; Package: 0402
footprint 0402RESC1005X04N (Chip Resistor, 2-Leads, Body 1,00x0,50mm, IPC Medium Density)
pins: 1, 2

## RC0402FR-07150RL
designator R?, comment 150R
RES 150 OHM 1% 1/16W 0402 (1005); Manufacturer: YAGEO; MPN: RC0402FR-07150RL; Value: 150 Ohms; Voltage: 50V; ComponentLink1Description: Datasheet; ComponentLink1URL: https://yageogroup.com/content/datasheet/asset/file/PYU-RC_GROUP_51_ROHS_L; Tolerance: ±1%; Package: 0402
footprint 0402RESC1005X04N (Chip Resistor, 2-Leads, Body 1,00x0,50mm, IPC Medium Density)
pins: 1, 2

## RC0402FR-07240RL
designator R?, comment 240R
RES 240 OHM 1% 1/16W 0402 (1005); Manufacturer: YAGEO; MPN: RC0402FR-07240RL; Value: 240 Ohms; Voltage: 50V; ComponentLink1Description: Datasheet; ComponentLink1URL: https://yageogroup.com/content/datasheet/asset/file/PYU-RC_GROUP_51_ROHS_L; Tolerance: ±1%; Package: 0402
footprint 0402RESC1005X04N (Chip Resistor, 2-Leads, Body 1,00x0,50mm, IPC Medium Density)
pins: 1, 2

## RC0402JR-071KL
designator R?, comment 1k
RES 1K OHM 5% 1/16W 0402 (1005); Manufacturer: YAGEO; MPN: RC0402JR-071KL; Value: 1 kOhms; Voltage: 50V; ComponentLink1Description: Datasheet; ComponentLink1URL: https://yageogroup.com/content/datasheet/asset/file/PYU-RT_1-TO-0-01_ROHS_L; Tolerance: ±5%; Package: 0402
footprint 0402RESC1005X04N (Chip Resistor, 2-Leads, Body 1,00x0,50mm, IPC Medium Density)
pins: 1, 2

## RC0402JR-074K7L
designator R?, comment 4k7
RES 4.7K OHM 5% 1/16W 0402 (1005); Manufacturer: YAGEO; MPN: RT0402FRE0780RL; Value: 4.7 kOhms; Voltage: 50V; ComponentLink1Description: Datasheet; ComponentLink1URL: https://yageogroup.com/content/datasheet/asset/file/PYU-RC_GROUP_51_ROHS_L; Tolerance: ±5%; Package: 0402
footprint 0402RESC1005X04N (Chip Resistor, 2-Leads, Body 1,00x0,50mm, IPC Medium Density)
pins: 1, 2

## RC0603FR-071KL
designator R?, comment 1k
RES 1K OHM 1% 1/10W 0603 (1608); Manufacturer: YAGEO; MPN: RC0603FR-071KL; Value: 1 kOhms; Voltage: 75V; ComponentLink1Description: Datasheet; ComponentLink1URL: https://yageogroup.com/content/datasheet/asset/file/PYU-RC_GROUP_51_ROHS_L; Tolerance: ±1%; Package: 0603
footprint 0603RESC1608X05L (Chip Resistor, 2-Leads, Body 1,58x0,85mm, IPC High Density)
footprint 0603RESC1608X05M (Chip Resistor, 2-Leads, Body 1,58x0,85mm, IPC Low Density)
footprint 0603RESC1608X05N (Chip Resistor, 2-Leads, Body 1,58x0,85mm, IPC Medium Density)
pins: 1, 2

## RC0603FR-0710KL
designator R?, comment 10k
RES 10K OHM 1% 1/10W 0603(1608); Manufacturer: YAGEO; MPN: RC0603FR-0710KL; Value: 10 kOhms; Voltage: 75V; ComponentLink1Description: Datasheet; ComponentLink1URL: https://yageogroup.com/content/datasheet/asset/file/PYU-RC_GROUP_51_ROHS_L; Tolerance: ±1%; Package: 0603
footprint 0603RESC1608X05L (Chip Resistor, 2-Leads, Body 1,58x0,85mm, IPC High Density)
footprint 0603RESC1608X05M (Chip Resistor, 2-Leads, Body 1,58x0,85mm, IPC Low Density)
footprint 0603RESC1608X05N (Chip Resistor, 2-Leads, Body 1,58x0,85mm, IPC Medium Density)
pins: 1, 2

## RC0603FR-0712KL
designator R?, comment 12k
RES 12K OHM 1% 1/10W 0603 (1608); Manufacturer: YAGEO; MPN: RC0603FR-0712KL; Value: 12 kOhms; Voltage: 75V; ComponentLink1Description: Datasheet; ComponentLink1URL: https://yageogroup.com/content/datasheet/asset/file/PYU-RC_GROUP_51_ROHS_L; Tolerance: ±1%; Package: 0603
footprint 0603RESC1608X05L (Chip Resistor, 2-Leads, Body 1,58x0,85mm, IPC High Density)
footprint 0603RESC1608X05M (Chip Resistor, 2-Leads, Body 1,58x0,85mm, IPC Low Density)
footprint 0603RESC1608X05N (Chip Resistor, 2-Leads, Body 1,58x0,85mm, IPC Medium Density)
pins: 1, 2

## RC0603FR-0722RL
designator R?, comment 22R
RES 22 OHM 1% 1/10W 0603 (1608); Manufacturer: YAGEO; MPN: RC0603FR-0722RL; Value: 22 Ohms; Voltage: 75V; ComponentLink1Description: Datasheet; ComponentLink1URL: https://yageogroup.com/content/datasheet/asset/file/PYU-RC_GROUP_51_ROHS_L; Tolerance: ±1%; Package: 0603
footprint 0603RESC1608X05L (Chip Resistor, 2-Leads, Body 1,58x0,85mm, IPC High Density)
footprint 0603RESC1608X05M (Chip Resistor, 2-Leads, Body 1,58x0,85mm, IPC Low Density)
footprint 0603RESC1608X05N (Chip Resistor, 2-Leads, Body 1,58x0,85mm, IPC Medium Density)
pins: 1, 2

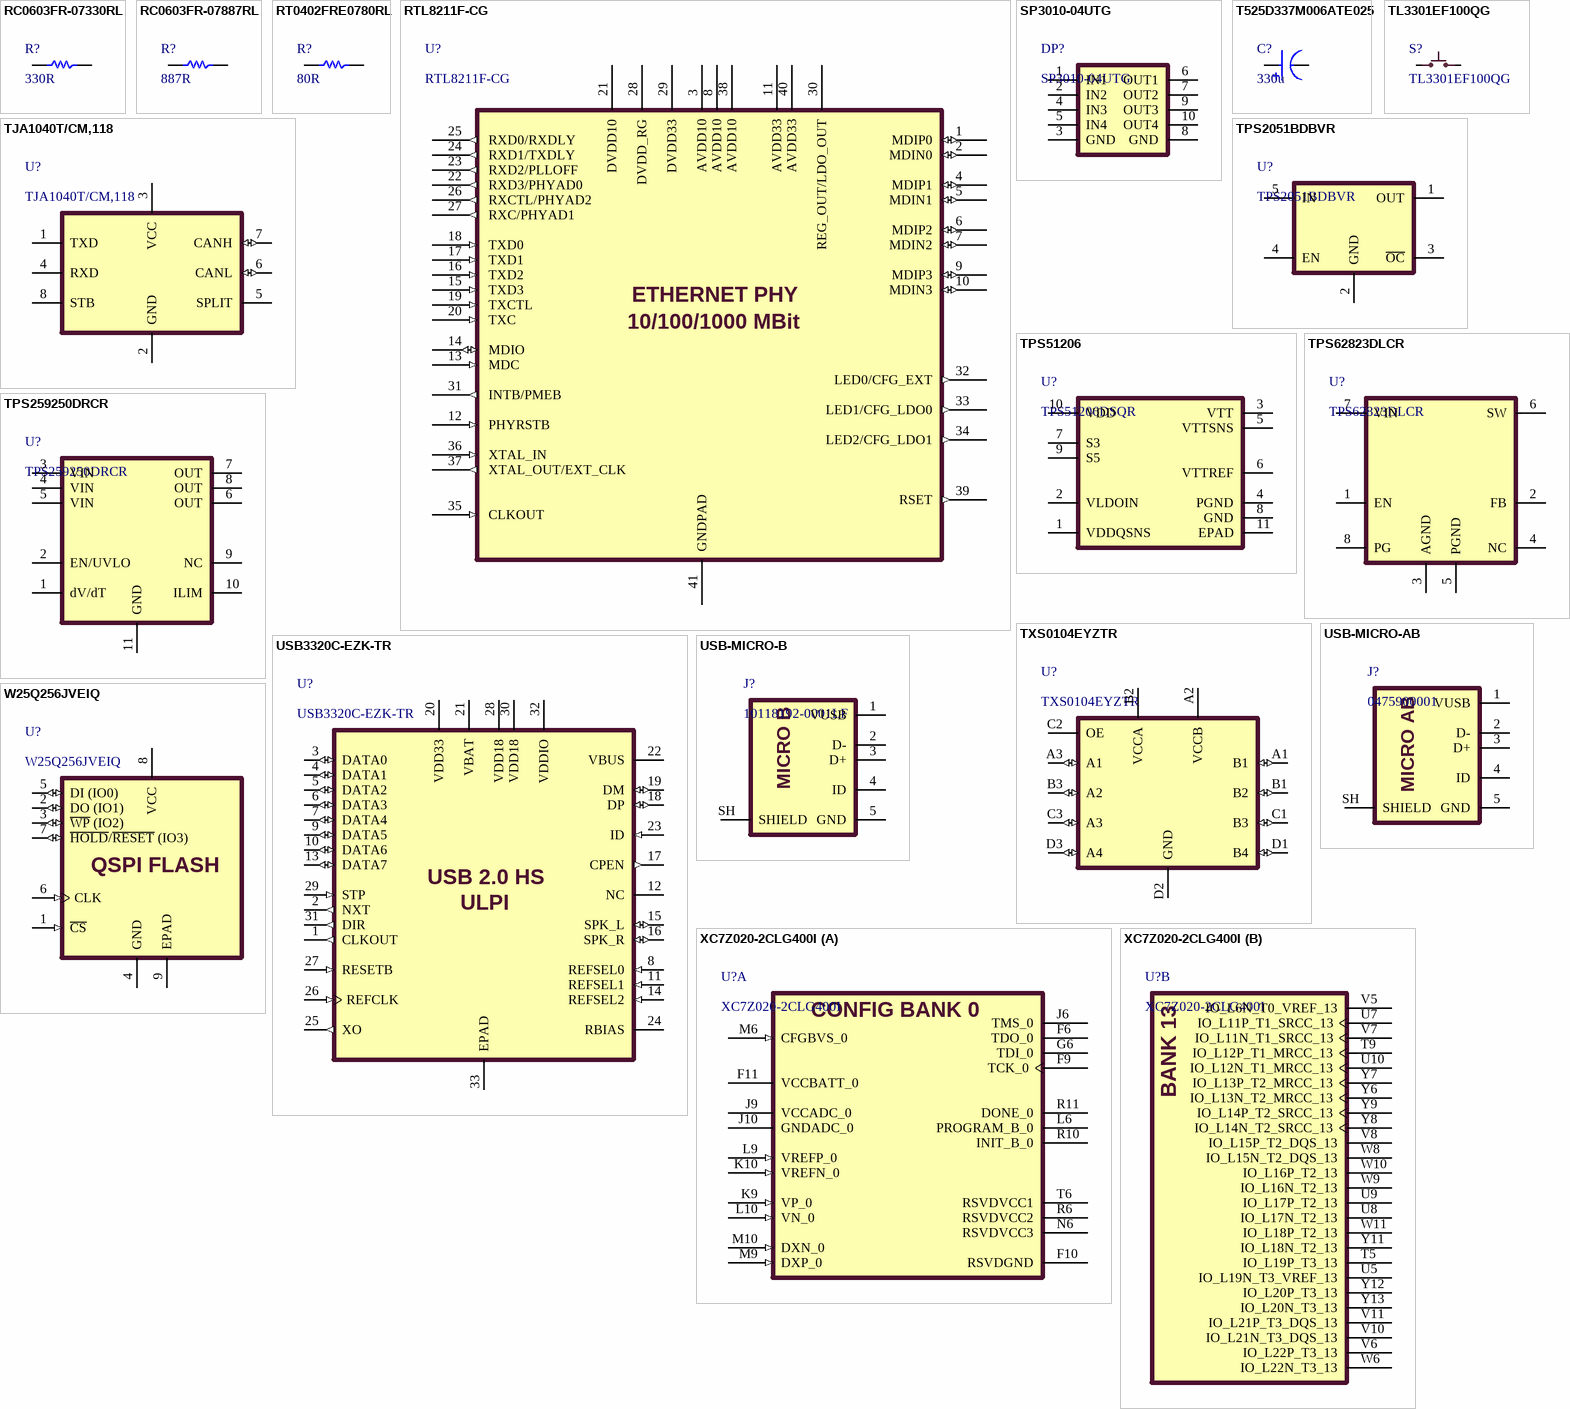
[diagram p2: symbols RC0603FR-07330RL to XC7Z020-2CLG400I]

## RC0603FR-07330RL
designator R?, comment 330R
RES 330 OHM 1% 1/10W 0603(1608); Manufacturer: YAGEO; MPN: RC0603FR-07330RL; Value: 330 Ohms; Voltage: 75V; ComponentLink1Description: Datasheet; ComponentLink1URL: https://yageogroup.com/content/datasheet/asset/file/PYU-RC_GROUP_51_ROHS_L; Tolerance: ±1%; Package: 0603
footprint 0603RESC1608X05L (Chip Resistor, 2-Leads, Body 1,58x0,85mm, IPC High Density)
footprint 0603RESC1608X05M (Chip Resistor, 2-Leads, Body 1,58x0,85mm, IPC Low Density)
footprint 0603RESC1608X05N (Chip Resistor, 2-Leads, Body 1,58x0,85mm, IPC Medium Density)
pins: 1, 2

## RC0603FR-07887RL
designator R?, comment 887R
RES 887 OHM 1% 1/10W 0603 (1608); Manufacturer: YAGEO; MPN: RC0603FR-07887RL; Value: 887 Ohms; Voltage: 75V; ComponentLink1Description: Datasheet; ComponentLink1URL: https://yageogroup.com/content/datasheet/asset/file/PYU-RC_GROUP_51_ROHS_L; Tolerance: ±1%; Package: 0603
footprint 0603RESC1608X05L (Chip Resistor, 2-Leads, Body 1,58x0,85mm, IPC High Density)
footprint 0603RESC1608X05M (Chip Resistor, 2-Leads, Body 1,58x0,85mm, IPC Low Density)
footprint 0603RESC1608X05N (Chip Resistor, 2-Leads, Body 1,58x0,85mm, IPC Medium Density)
pins: 1, 2

## RT0402FRE0780RL
designator R?, comment 80R
RES 80 OHM 1% 1/16W 0402 (1005); Manufacturer: YAGEO; MPN: RT0402FRE0780RL; Value: 80 Ohms; Voltage: 50V; ComponentLink1Description: Datasheet; ComponentLink1URL: https://yageogroup.com/content/datasheet/asset/file/PYU-RT_1-TO-0-01_ROHS_L; Tolerance: ±1%; Package: 0402
footprint 0402RESC1005X04N (Chip Resistor, 2-Leads, Body 1,00x0,50mm, IPC Medium Density)
pins: 1, 2

## RTL8211F-CG
designator U?
RGMII Ethernet Transceiver WQFN-40-EP(5x5) Drivers, Receivers, Transceivers RoHS; Manufacturer: REALTEK; ComponentLink1Description: Datasheet; ComponentLink1URL: https://www.lcsc.com/datasheet/C187932.pdf; MPN: RTL8211F-CG
footprint QFN40P500X500X90_HS-41N (QFN, 40-Leads, Body 5,00x5,00mm, Pitch 0,40mm, Thermal Pad 3,70x3,70mm, IPC Medium Density)
pins: 1  MDIP0 (io), 2  MDIN0 (io), 3  AVDD10 (power), 4  MDIP1 (io), 5  MDIN1 (io), 6  MDIP2 (io), 7  MDIN2 (io), 8  AVDD10 (power), 9  MDIP3 (io), 10  MDIN3 (io), 11  AVDD33 (power), 12  PHYRSTB (in), 13  MDC (in), 14  MDIO (io), 15  TXD3 (in), 16  TXD2 (in), 17  TXD1 (in), 18  TXD0 (in), 19  TXCTL (in), 20  TXC (in), 21  DVDD10 (power), 22  RXD3/PHYAD0 (out), 23  RXD2/PLLOFF (out), 24  RXD1/TXDLY (out), 25  RXD0/RXDLY (out), 26  RXCTL/PHYAD2 (out), 27  RXC/PHYAD1 (out), 28  DVDD_RG (power), 29  DVDD33 (power), 30  REG_OUT/LDO_OUT (power), 31  INTB/PMEB (out), 32  LED0/CFG_EXT (out), 33  LED1/CFG_LDO0 (out), 34  LED2/CFG_LDO1 (out), 35  CLKOUT (in), 36  XTAL_IN (in), 37  XTAL_OUT/EXT_CLK (out), 38  AVDD10 (power), 39  RSET (out), 40  AVDD33 (power), 41 GNDPAD (power)
text: ETHERNET PHY; 10/100/1000 MBit

## SP3010-04UTG
designator DP?
12.3V (Typ) Clamp 3A (8/20µs) Ipp Tvs Diode Surface Mount 10-µDFN (2.5x1.0); Manufacturer: Littelfuse Inc.; ComponentLink1Description: Datasheet; ComponentLink1URL: https://www.littelfuse.com/assetdocs/tvs-diode-arrays-spa-sp3010-datasheet?assetguid=45c5abf7-7fdd-437b-a47f-7ff9f7df8819; MPN: SP3010-04UTG
footprint DFN-10 (2.5x1.0x0.5mm) (DFN, 4-Leads, Body 1,00x2,50mm, Pitch 2,00mm, IPC Medium Density)
pins: 1 IN1, 2 IN2, 3 GND, 4 IN3, 5 IN4, 6 OUT1, 7 OUT2, 8 GND, 9 OUT3, 10 OUT4

## T525D337M006ATE025
designator C?, comment 330u
CAP TANT POLY 330UF 6.3V 2917 (7343) ±20%; Manufacturer: KEMET; MPN: T525D337M006ATE025; ESR: 25mOhm @ 100kHz; Value: 330 µF; ComponentLink1Description: Datasheet; ComponentLink1URL: https://search.kemet.com/download/specsheet/T525D337M006ATE025; Package: 2917; Tolerance: ±20%; Voltage: 6.3 V
footprint T525D337M006ATE025 (Molded Capacitor, 2-Leads, Body 7,30x4,30mm, IPC Medium Density)
pins: 1, 2

## TJA1040T/CM,118
designator U?
CAN Interface IC High-Speed CAN Transceiver with Standby Mode SOIC8; Manufacturer: NXP USA Inc.; ComponentLink1Description: Datasheet; ComponentLink1URL: https://www.nxp.com/docs/en/data-sheet/TJA1040.pdf; MPN: TJA1040T/CM,118
footprint SOIC127P600X175-8N (SOIC, 8-Leads, Body 4,90x3,90mm, Pitch 1,27mm, IPC Medium Density)
pins: 1 TXD, 2 GND (power), 3 VCC (power), 4 RXD, 5 SPLIT, 6 CANL (io), 7 CANH (io), 8 STB

## TL3301EF100QG
designator S?
SWITCH TACTILE SPST-NO 0.05A 12V; Manufacturer: E-Switch; ComponentLink1Description: Datasheet; ComponentLink1URL: https://configured-product-images.s3.amazonaws.com/Datasheets/TL3301.pdf; MPN: TL3301EF100QG
footprint TL3301_Tact_SW; pin to pad 1,2>1+2 3,4>3+4
pins: 1,2, 3,4

## TPS2051BDBVR
designator U?
Power Switch/Driver 1:1 N-Channel 500mA SOT-23-5; Manufacturer: Texas Instruments; ComponentLink1Description: Datasheet; ComponentLink1URL: https://www.ti.com/lit/ds/symlink/tps2051b.pdf?ts=1769451796682&ref_url=https%253A%252F%252Fwww.ti.com%252Fproduct%252FTPS2051B; MPN: TPS2051BDBVR
footprint SOT95P280X125-5N (SOT23, 5-Leads, Body 2,90x2,80mm, Pitch 0,95mm, IPC Medium Density)
pins: 1 OUT, 2 GND, 3 ~{OC}, 4 EN, 5 IN

## TPS51206
designator U?, comment TPS51206DSQR
Converter, DDR Voltage Regulator IC 1 Output 10-WSON (2x2); Manufacturer: Texas Instruments; ComponentLink1Description: Datasheet; ComponentLink1URL: https://www.ti.com/lit/ds/symlink/tps51206.pdf?HQS=dis-dk-null-digikeymode-dsf-pf-null-wwe&ts=1769211972272&ref_url=https%253A%252F%252Fwww.ti.com%252Fgeneral%252Fdocs%252Fsuppproductinfo.tsp%253FdistId%253D10%2526gotoUrl%253Dhttps%253A%252F%252Fwww.ti.com%252Flit%252Fgpn%252Ftps51206; MPN: TPS51206DSQR; Package: 10-WSON
footprint WSON2X2-10/SON40P200X80_HS-11N (SON, 10-Leads, Body 2,00x2,00mm, Pitch 0,40mm, Thermal Pad 1,50x0,69mm, IPC Medium Density)
pins: 1 VDDQSNS (power), 2 VLDOIN (power), 3 VTT (power), 4 PGND (power), 5 VTTSNS (power), 6 VTTREF (power), 7 S3 (power), 8 GND (power), 9 S5 (power), 10 VDD (power), 11 EPAD (power)

## TPS62823DLCR
designator U?
2.4-V to 5.5-V input, 3-A step-down converter with 1% accuracy in 1.5-mm x 2-mm VSON-HR package; Manufacturer: Texas Instruments; ComponentLink1Description: Datasheet; ComponentLink1URL: https://www.ti.com/lit/ds/symlink/tps62823.pdf; ComponentLink2Description: Evaluation Module; ComponentLink2URL: https://www.ti.com/lit/ug/slvuba0/slvuba0.pdf; MPN: TPS62823DLCR
footprint VSON50P150X100-8N (VSON, 8-Leads, Body 2,00x1,50mm, Pitch 0,50mm, IPC Medium Density)
pins: 1 EN, 2 FB, 3 AGND (power), 4 NC (power), 5 PGND (power), 6 SW (power), 7 VIN (power), 8 PG

## TPS259250DRCR
designator U?
Electronic Fuse Regulator 5A 10-VSON (3x3); Manufacturer: Texas Instruments; ComponentLink1Description: Datasheet; ComponentLink1URL: https://www.ti.com/lit/ds/symlink/tps25925.pdf?HQS=dis-dk-null-digikeymode-dsf-pf-null-wwe&ts=1768606527240&ref_url=https%253A%252F%252Fwww.ti.com%252Fgeneral%252Fdocs%252Fsuppproductinfo.tsp%253FdistId%253D10%2526gotoUrl%253Dhttps%253A%252F%252Fwww.ti.com%252Flit%252Fgpn%252Ftps25925; ComponentLink2Description: Evaluation Module; ComponentLink2URL: https://www.ti.com/lit/ug/sluub64/sluub64.pdf?ts=1768615249837; MPN: TPS259250DRCR
footprint VSON50P300X100_HS-11N (VSON, 10-Leads, Body 3,00x3,00mm, Pitch 0,50mm, Thermal Pad 2,40x1,49mm, IPC Medium Density)
pins: 1 dV/dT, 2 EN/UVLO, 3 VIN (power), 4 VIN (power), 5 VIN (power), 6 OUT (power), 7 OUT (power), 8 OUT (power), 9 NC, 10 ILIM, 11 GND (power)

## TXS0104EYZTR
designator U?
Voltage Level Translator Bidirectional 1 Circuit 4 Channel 24Mbps 12-DSBGA (1.9x1.4); Manufacturer: Texas Instruments; ComponentLink1Description: Datasheet; ComponentLink1URL: https://www.ti.com/lit/ds/symlink/txs0104e.pdf?HQS=dis-dk-null-digikeymode-dsf-pf-null-wwe&ts=1769494565851&ref_url=https%253A%252F%252Fwww.ti.com%252Fgeneral%252Fdocs%252Fsuppproductinfo.tsp%253FdistId%253D10%2526gotoUrl%253Dhttps%253A%252F%252Fwww.ti.com%252Flit%252Fgpn%252Ftxs0104e; MPN: TXS0104EYZTR
footprint BGA12C50P3X4
pins: A1 B1 (io), A2 VCCB (power), A3 A1 (io), B1 B2 (io), B2 VCCA (power), B3 A2 (io), C1 B3 (io), C2 OE, C3 A3 (io), D1 B4 (io), D2 GND (power), D3 A4 (io)

## USB3320C-EZK-TR
designator U?
Hi-Speed USB 2.0 ULPI Transceiver; Manufacturer: Microchip; MPN: USB3320C-EZK-TR; ComponentLink1Description: Datasheet; ComponentLink1URL: https://ww1.microchip.com/downloads/aemDocuments/documents/UNG/ProductDocuments/DataSheets/USB3320-Data-Sheet-DS00001792.pdf
footprint QFN50P500X500X100_HS-33N (QFN, 32-Leads, Body 5,00x5,00mm, Pitch 0,50mm, Thermal Pad 3,30x3,30mm, IPC Medium Density)
pins: 1 CLKOUT (out), 2 NXT (out), 3 DATA0 (io), 4 DATA1 (io), 5 DATA2 (io), 6 DATA3 (io), 7 DATA4 (io), 8 REFSEL0 (in), 9 DATA5 (io), 10 DATA6 (io), 11 REFSEL1 (in), 12 NC, 13 DATA7 (io), 14 REFSEL2 (in), 15 SPK_L (io), 16 SPK_R (io), 17 CPEN (out), 18 DP (io), 19 DM (io), 20 VDD33 (power), 21 VBAT (power), 22 VBUS (power), 23 ID (in), 24 RBIAS, 25 XO (out), 26 REFCLK (in), 27 RESETB (in), 28 VDD18 (power), 29 STP (in), 30 VDD18 (power), 31 DIR (out), 32 VDDIO (power), 33 EPAD (power)
text: USB 2.0 HS; ULPI

## USB-MICRO-AB
designator J?, comment 0475900001
CONN RCPT MICRO USB AB 5P SMD RA; Manufacturer: Molex; ComponentLink1Description: Datasheet; ComponentLink1URL: https://www.molex.com/content/dam/molex/molex-dot-com/products/automated/en-us/salesdrawingpdf/475/47590/475900001_sd.pdf?inline; MPN: 0475900001
footprint USB2.0 MICRO AB SMD (CONN RCPT MICRO USB AB 5P SMD RA)
pins: 1 VUSB, 2 D-, 3 D+, 4 ID, 5 GND, SH SHIELD
text: MICRO AB

## USB-MICRO-B
designator J?, comment 10118192-0001LF
CONN RCPT USB2.0 MICRO B SMD R/A; Manufacturer: Amphenol ICC (FCI); ComponentLink1Description: Datasheet; ComponentLink1URL: https://cdn.amphenol-cs.com/media/wysiwyg/files/documentation/datasheet/inputoutput/io_usb_micro.pdf; MPN: 10118192-0001LF
footprint USB2.0 MICRO B SMD (CONN RCPT USB2.0 MICRO B SMD R/A)
pins: 1 VUSB, 2 D-, 3 D+, 4 ID, 5 GND, SH SHIELD
text: MICRO B

## W25Q256JVEIQ
designator U?
FLASH - NOR Memory IC 256Mbit SPI - Quad I/O 133 MHz 8-WSON (8x6); Manufacturer: Winbond Electronics; ComponentLink1Description: Datasheet; ComponentLink1URL: https://www.winbond.com/resource-files/w25q256jv%20spi%20revg%2008032017.pdf; MPN: W25Q256JVEIQ
footprint WSON8X6-SON127P800X80_HS-9N (SON, 8-Leads, Body 6,00x8,00mm, Pitch 1,27mm, Thermal Pad 4,30x3,40mm, IPC Medium Density)
pins: 1 ~{CS} (in), 2 DO (IO1) (io), 3 ~{WP} (IO2) (io), 4 GND (power), 5 DI (IO0) (io), 6 CLK (in), 7 ~{HOLD}/~{RESET} (IO3) (io), 8 VCC (power), 9 EPAD (power)
text: QSPI FLASH

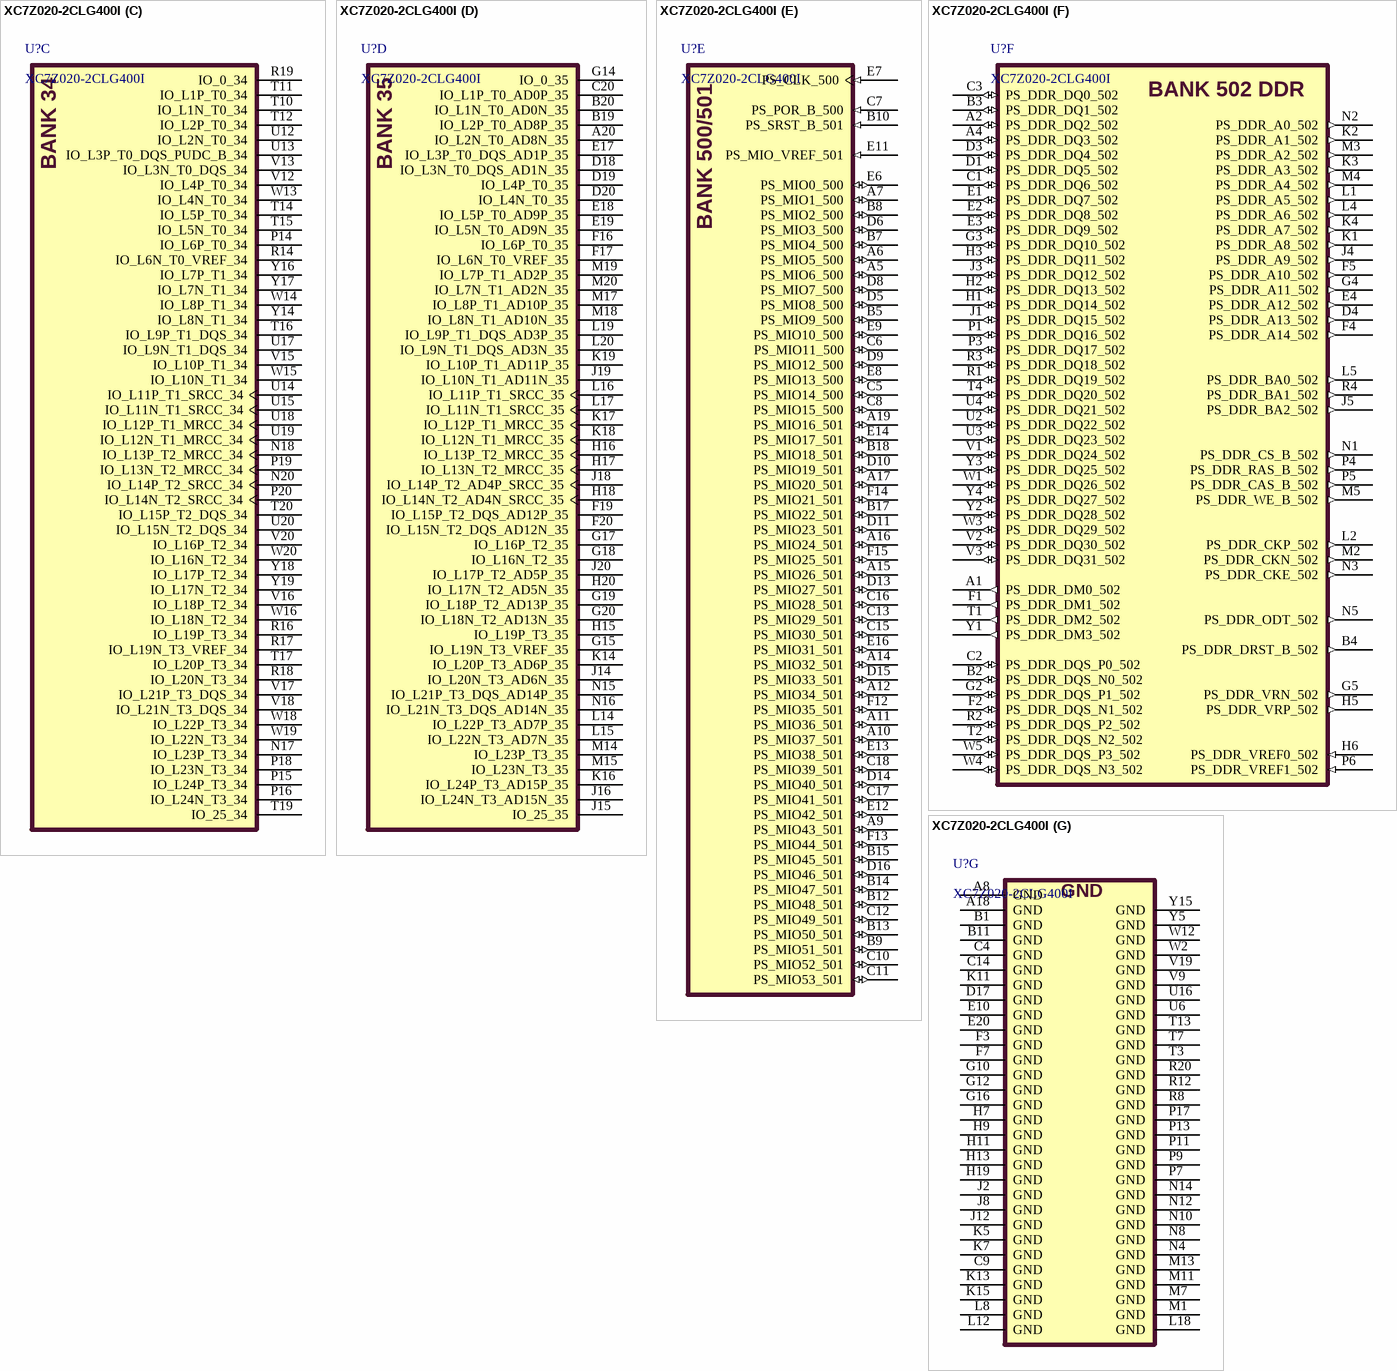
[diagram p3: symbol XC7Z020-2CLG400I]

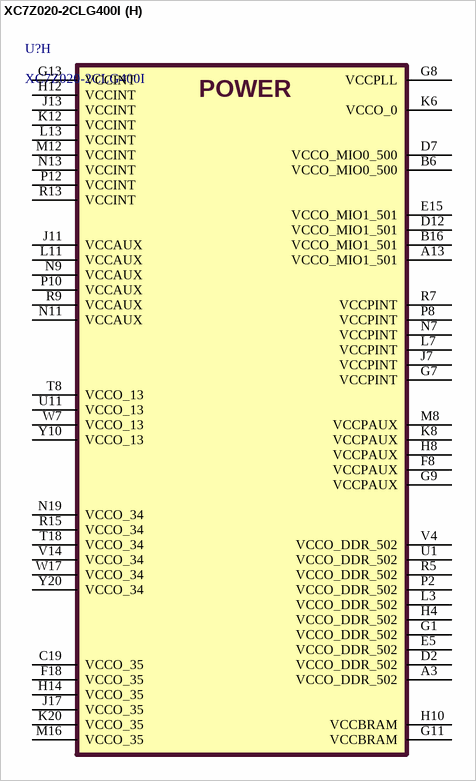
[diagram p4: symbol XC7Z020-2CLG400I]